# Altium footprint library PCB - LEADED - SOP - NXP TSSOP-56 SOT364-1.PcbLib: 1 footprints
Each footprint in its own frame and in the unit in brackets; x right, y up, seen from the top. Pads: shape width x height; smd on the part's side, far side on the other; paste and mask are expansions set on the pad; w line width, h text height; cw(c..) or ccw(c..) is an arc to the next point about the centre after c.
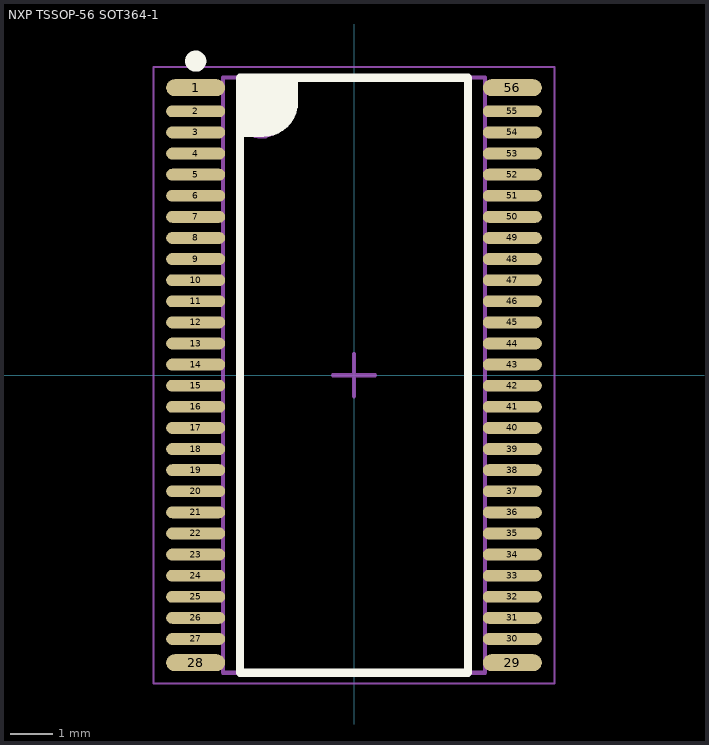
[diagram p0: the footprint, top view; thin cyan lines are the x and y axes]

## NXP TSSOP-56 SOT364-1 [mm] "TSSOP, 56-Leads, Body 14.00x6.10mm, Pitch 0.50mm, IPC Medium Density"
height 1.2
pads (56):
  oval 1.4x0.4 smd: 1(-3.75,6.81) 28(-3.75,-6.81) 29(3.75,-6.81) 56(3.75,6.81)
  oval 1.4x0.28 smd: 2(-3.75,6.25) 3(-3.75,5.75) 4(-3.75,5.25) 5(-3.75,4.75) 6(-3.75,4.25) 7(-3.75,3.75) 8(-3.75,3.25) 9(-3.75,2.75) 10(-3.75,2.25) 11(-3.75,1.75) 12(-3.75,1.25) 13(-3.75,0.75) 14(-3.75,0.25) 15(-3.75,-0.25) 16(-3.75,-0.75) 17(-3.75,-1.25) 18(-3.75,-1.75) 19(-3.75,-2.25) 20(-3.75,-2.75) 21(-3.75,-3.25) 22(-3.75,-3.75) 23(-3.75,-4.25) 24(-3.75,-4.75) 25(-3.75,-5.25) 26(-3.75,-5.75) 27(-3.75,-6.25) 30(3.75,-6.25) 31(3.75,-5.75) 32(3.75,-5.25) 33(3.75,-4.75) 34(3.75,-4.25) 35(3.75,-3.75) 36(3.75,-3.25) 37(3.75,-2.75) 38(3.75,-2.25) 39(3.75,-1.75) 40(3.75,-1.25) 41(3.75,-0.75) 42(3.75,-0.25) 43(3.75,0.25) 44(3.75,0.75) 45(3.75,1.25) 46(3.75,1.75) 47(3.75,2.25) 48(3.75,2.75) 49(3.75,3.25) 50(3.75,3.75) 51(3.75,4.25) 52(3.75,4.75) 53(3.75,5.25) 54(3.75,5.75) 55(3.75,6.25)
Top Overlay:
  circle w0.25: c-3.75,7.44 r0.125
  region: -2.7,7.05 -1.397,7.05 -1.397,6.477 -1.397,6.402 -1.426,6.255 -1.484,6.116 -1.567,5.991 -1.673,5.885 -1.798,5.802 -1.937,5.744 -2.084,5.715 -2.159,5.715 -2.667,5.715
  lines w0.15: -2.667,5.715 -2.159,5.715 ccw(c-2.159,6.477) -1.397,6.477 -1.397,6.985
  lines w0.2: -2.7,-7.05 -2.7,7.05 2.7,7.05 2.7,-7.05 -2.7,-7.05
Mechanical 13:
  circle w0.1: c-2.2,6.15 r0.5
  lines w0.1: -3.1,-7.05 -3.1,7.05 3.1,7.05 3.1,-7.05 -3.1,-7.05
Mechanical 15:
  lines w0.05: -4.75,-7.3 -4.75,7.3 4.75,7.3 4.75,-7.3 -4.75,-7.3
  lines w0.1: -0.5,0 0.5,0 ; 0,-0.5 0,0.5
3D body "NXP TSSOP-56 SOT364-1.step": height 1.2, standoff 0, extent -4.05,-7.05 4.05,7.05